# Altium integrated library Texas Instruments Power Management PWM Controller.IntLib: 1227 symbols (part 46 of 49)
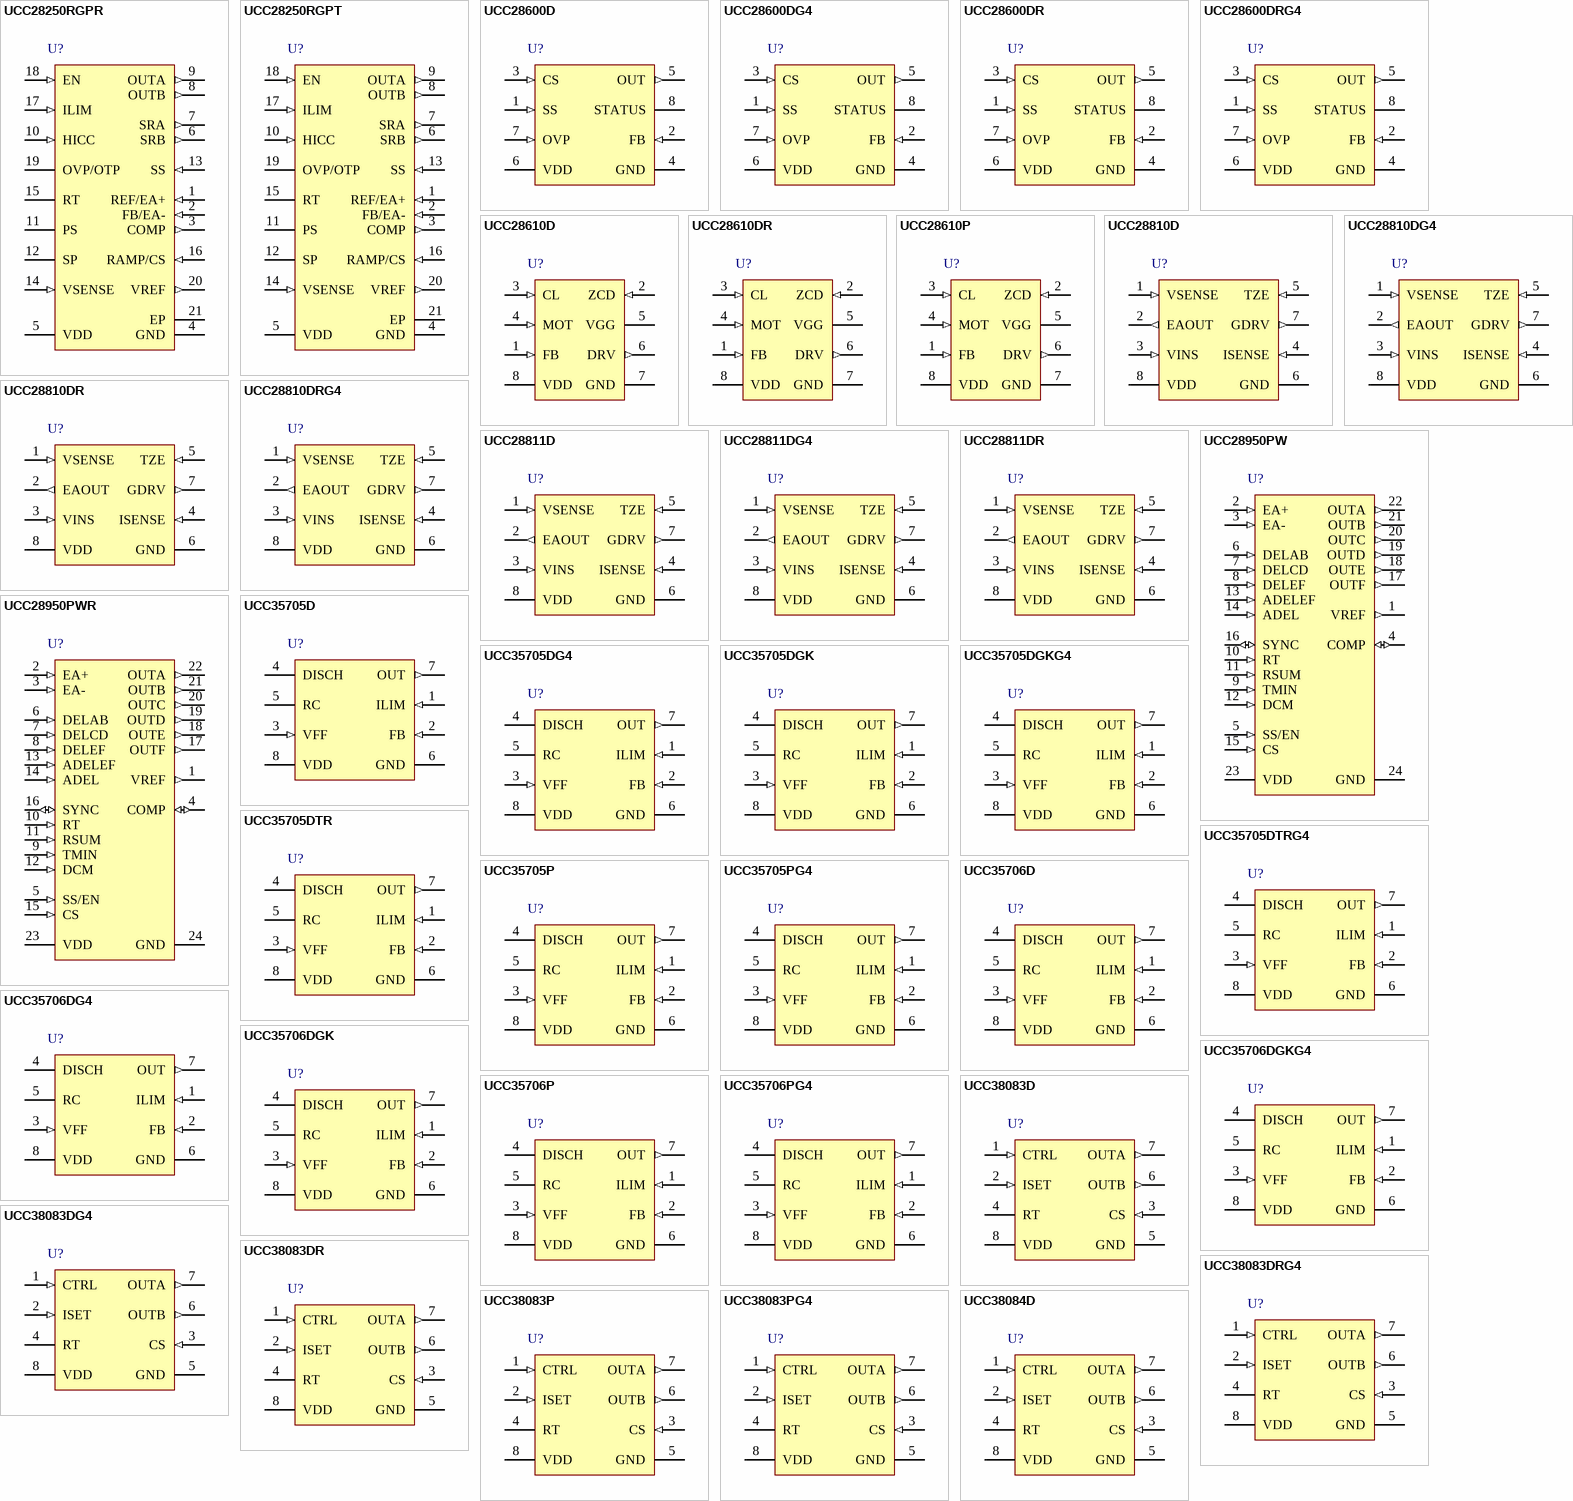
[diagram p88: symbols UCC28250RGPR to UCC38084D]

## UCC28610P
designator U?
Green-Mode Flyback Power Supply Controller with Discontinuous Current Control, -40 to +125 degC, 8-pin PDIP (P), Green (RoHS & no Sb/Br); PartNumber: UCC28610P; Manufacturer: Texas Instruments; Frequency(Max)(kHz): 130; Rating: Catalog; SubFamily: PWM Controller; DatasheetVersion: SLUS888E; PackageVersion: revE, Apr-2010; PackageReference: P8; PackageDescription: 8-Pin Plastic Dual-In-Line Package, Row Spacing 7.62 mm, Pitch 2.54 mm; Supplier 1: Digi-Key; Supplier Part Number 1: 296-25264-5-ND; Supplier 2: Farnell; Supplier Part Number 2: 1778219; Supplier 3: Newark; Supplier Part Number 3: 35R6297; Supplier 4: Mouser; Supplier Part Number 4: 595-UCC28610P; Control Method: Discontinuous Current; Eco-Plan: Green (RoHS & no Sb/Br); Topology: Flyback; UVLO Thresholds On/Off(V): 10.2/8; Mounting Technology: Through Hole; Code_JEDEC: MS-001-BA; ComponentLink1Description: Datasheet; ComponentLink1URL: http://www.ti.com/general/docs/lit/getliterature.tsp?genericPartNumber=UCC28610&fileType=pdf
footprint P8 (DIP, 8-Leads, Row Spacing 7.62mm, Pitch 2.54mm, Body 9.6x6.4mm)
pins: 1 FB (in) "(FeedBack) The FB current, IFB, commands the operating mode of the UCC28610. The FB voltage is always 0.7 V. This pin only detects current.", 2 ZCD (in) "(Zero Current Detection) This pin has two functions: 1. ZCD senses the transformer reset based on a valid zero current detection signal. ZCD 2 I 2. ZCD programs the output Over Voltage Protection (OVP) feature using a (See Datasheet)", 3 CL (in) "(Current Limit) This pin programs the peak primary inductor current that is reached each switching cycle. Program CL 3 I with a resistor between CL and GND.", 4 MOT (in) "(Maximum On Time) This pin has three functions: 1. MOT programs the allowed maximum on-time, tMOT, of the internal driver. 2. MOT programs the converter’s reaction to overload and power input under-voltage conditions with (See Datasheet)", 5 VGG (power) "This pin provides a DC voltage for the gate of the external high voltage MOSFET. This pin must be decoupled with  a 0.1-uF ceramic capacitor placed between VGG and GND, as close to the device as possible. This pin also (See Datasheet)", 6 DRV (out) "(DRiVe) This pin drives the source of an external high voltage power MOSFET. The DRV pin carries the full primary current of the converter. Connect a Schottky diode between DRV and VDD to provide initial bias at start up.", 7 GND (power) "(GrouND) This pin is the current return terminal for both the analog and power signals in the UCC28610. This terminal carries the full primary current of the converter. Separate the return path of the bulk capacitor from the (See Datasheet)", 8 VDD (power) "This is the bias supply pin for the UCC28610. It can be derived from an external source or an auxiliary winding.This pin must be decoupled with a 0.1-uF ceramic capacitor placed between VDD and GND, as close to the device as (See Datasheet)"

## UCC28810D
designator U?
LED Lighting Power Controller, -40 to +105 degC, 8-pin SOIC (D), Green (RoHS & no Sb/Br); PartNumber: UCC28810D; Manufacturer: Texas Instruments; Frequency(Max)(kHz): 200; Rating: Catalog; SubFamily: PWM Controller; DatasheetVersion: SLUS865; PackageVersion: revM, Jun-2011; PackageReference: D8; PackageDescription: 8-Pin Plastic Small Outline Integrated Circuit, 4.9 x 3.9 mm, Pitch 1.27 mm Pitch; Supplier 1: Digi-Key; Supplier Part Number 1: 296-27162-5-ND; Supplier 2: Farnell; Supplier Part Number 2: 1755591; Supplier 3: Newark; Supplier Part Number 3: 34P6595; Supplier 4: Mouser; Supplier Part Number 4: 595-UCC28810D; Eco-Plan: Green (RoHS & no Sb/Br); UVLO Thresholds On/Off(V): 16/10/2012; Mounting Technology: Surface Mount; Code_JEDEC: MS-012AA; ComponentLink1Description: Datasheet; ComponentLink1URL: http://www.ti.com/general/docs/lit/getliterature.tsp?genericPartNumber=UCC28810&fileType=pdf
footprint D8_N (SOIC, 8-Leads, Body 4.9x3.9mm, Pitch 1.27mm, IPC Medium Density)
footprint D8_L (SOIC, 8-Leads, Body 4.9x3.9mm, Pitch 1.27mm, IPC High Density)
footprint D8_M (SOIC, 8-Leads, Body 4.9x3.9mm, Pitch 1.27mm, IPC Low Density)
pins: 1 VSENSE (in) "This pin is the inverting input to the transconductance amplifier, with a nominal value of 2.5 V, and is also the input to the OVP comparator. Pulling this pin below the ENABLE threshold turns off the output switching, (See Datasheet)", 2 EAOUT (out) "Output of the transconductance error amplifier. The output current capability of this pin is 10 µA under normal conditions, but increases to 1 mA when the voltage on VSENSE rises above 2.5 V. The EAOUT voltage is one of the (See Datasheet)", 3 VINS (in) "This pin senses the instantaneous regulator input voltage through an external voltage divider. The VINS voltage acts as one of the inputs to the current reference generator. The recommended operating range is 0 V to 3.8 V at (See Datasheet)", 4 ISENSE (in) "This pin senses the instantaneous switch current in the external switch and uses this signal as the internal ramp for the current sense comparator. A small internal noise filter is provided. If additional filtering is (See Datasheet)", 5 TZE (in) "This pin is the input for the transformer zero energy detect comparator. A bias winding can be used to sense the transformer zero energy. The transition is detected when the inductor current falls to zero and the TZE input (See Datasheet)", 6 GND (power) "The device reference ground. All bypassing elements are connected to the GND pin with the shortest traces possible.", 7 GDRV (out) "The gate drive output driving the flyback, buck, or boost switch. This output is capable of delivering up to 750-mA peak currents during turn-on and turn-off. An external gate drive resistor may be needed to limit the peak (See Datasheet)", 8 VDD (power) "The supply voltage for the device. This pin must be bypassed with a high-frequency capacitor (not less than 0.1 µF) and tied directly to GND with the shortest traces possible. The UCC28810 has a wide UVLO hysteresis, (See Datasheet)"

## UCC28810DG4
designator U?
LED Lighting Power Controller, -40 to +105 degC, 8-pin SOIC (D), Green (RoHS & no Sb/Br); PartNumber: UCC28810DG4; Manufacturer: Texas Instruments; Frequency(Max)(kHz): 200; Rating: Catalog; SubFamily: PWM Controller; DatasheetVersion: SLUS865; PackageVersion: revM, Jun-2011; PackageReference: D8; PackageDescription: 8-Pin Plastic Small Outline Integrated Circuit, 4.9 x 3.9 mm, Pitch 1.27 mm Pitch; Supplier 1: Digi-Key; Supplier Part Number 1: UCC28810DG4-ND; Supplier 2: Newark; Supplier Part Number 2: 34P6596; Supplier 3: Mouser; Supplier Part Number 3: 595-UCC28810DG4; Eco-Plan: Green (RoHS & no Sb/Br); UVLO Thresholds On/Off(V): 16/10/2012; Mounting Technology: Surface Mount; Code_JEDEC: MS-012AA; ComponentLink1Description: Datasheet; ComponentLink1URL: http://www.ti.com/general/docs/lit/getliterature.tsp?genericPartNumber=UCC28810&fileType=pdf
footprint D8_N (SOIC, 8-Leads, Body 4.9x3.9mm, Pitch 1.27mm, IPC Medium Density)
footprint D8_L (SOIC, 8-Leads, Body 4.9x3.9mm, Pitch 1.27mm, IPC High Density)
footprint D8_M (SOIC, 8-Leads, Body 4.9x3.9mm, Pitch 1.27mm, IPC Low Density)
pins: 1 VSENSE (in) "This pin is the inverting input to the transconductance amplifier, with a nominal value of 2.5 V, and is also the input to the OVP comparator. Pulling this pin below the ENABLE threshold turns off the output switching, (See Datasheet)", 2 EAOUT (out) "Output of the transconductance error amplifier. The output current capability of this pin is 10 µA under normal conditions, but increases to 1 mA when the voltage on VSENSE rises above 2.5 V. The EAOUT voltage is one of the (See Datasheet)", 3 VINS (in) "This pin senses the instantaneous regulator input voltage through an external voltage divider. The VINS voltage acts as one of the inputs to the current reference generator. The recommended operating range is 0 V to 3.8 V at (See Datasheet)", 4 ISENSE (in) "This pin senses the instantaneous switch current in the external switch and uses this signal as the internal ramp for the current sense comparator. A small internal noise filter is provided. If additional filtering is (See Datasheet)", 5 TZE (in) "This pin is the input for the transformer zero energy detect comparator. A bias winding can be used to sense the transformer zero energy. The transition is detected when the inductor current falls to zero and the TZE input (See Datasheet)", 6 GND (power) "The device reference ground. All bypassing elements are connected to the GND pin with the shortest traces possible.", 7 GDRV (out) "The gate drive output driving the flyback, buck, or boost switch. This output is capable of delivering up to 750-mA peak currents during turn-on and turn-off. An external gate drive resistor may be needed to limit the peak (See Datasheet)", 8 VDD (power) "The supply voltage for the device. This pin must be bypassed with a high-frequency capacitor (not less than 0.1 µF) and tied directly to GND with the shortest traces possible. The UCC28810 has a wide UVLO hysteresis, (See Datasheet)"

## UCC28810DR
designator U?
LED Lighting Power Controller, -40 to +105 degC, 8-pin SOIC (D), Green (RoHS & no Sb/Br); PartNumber: UCC28810DR; Manufacturer: Texas Instruments; Frequency(Max)(kHz): 200; Rating: Catalog; SubFamily: PWM Controller; DatasheetVersion: SLUS865; PackageVersion: revM, Jun-2011; PackageReference: D8; PackageDescription: 8-Pin Plastic Small Outline Integrated Circuit, 4.9 x 3.9 mm, Pitch 1.27 mm Pitch; Supplier 1: Digi-Key; Supplier Part Number 1: 296-23905-2-ND; Supplier 2: Digi-Key; Supplier Part Number 2: 296-23905-1-ND; Supplier 3: Digi-Key; Supplier Part Number 3: 296-23905-6-ND; Supplier 4: Newark; Supplier Part Number 4: 34P6597; Supplier 5: Mouser; Supplier Part Number 5: 595-UCC28810DR; Eco-Plan: Green (RoHS & no Sb/Br); UVLO Thresholds On/Off(V): 16/10/2012; Mounting Technology: Surface Mount; Code_JEDEC: MS-012AA; ComponentLink1Description: Datasheet; ComponentLink1URL: http://www.ti.com/general/docs/lit/getliterature.tsp?genericPartNumber=UCC28810&fileType=pdf
footprint D8_N (SOIC, 8-Leads, Body 4.9x3.9mm, Pitch 1.27mm, IPC Medium Density)
footprint D8_L (SOIC, 8-Leads, Body 4.9x3.9mm, Pitch 1.27mm, IPC High Density)
footprint D8_M (SOIC, 8-Leads, Body 4.9x3.9mm, Pitch 1.27mm, IPC Low Density)
pins: 1 VSENSE (in) "This pin is the inverting input to the transconductance amplifier, with a nominal value of 2.5 V, and is also the input to the OVP comparator. Pulling this pin below the ENABLE threshold turns off the output switching, (See Datasheet)", 2 EAOUT (out) "Output of the transconductance error amplifier. The output current capability of this pin is 10 µA under normal conditions, but increases to 1 mA when the voltage on VSENSE rises above 2.5 V. The EAOUT voltage is one of the (See Datasheet)", 3 VINS (in) "This pin senses the instantaneous regulator input voltage through an external voltage divider. The VINS voltage acts as one of the inputs to the current reference generator. The recommended operating range is 0 V to 3.8 V at (See Datasheet)", 4 ISENSE (in) "This pin senses the instantaneous switch current in the external switch and uses this signal as the internal ramp for the current sense comparator. A small internal noise filter is provided. If additional filtering is (See Datasheet)", 5 TZE (in) "This pin is the input for the transformer zero energy detect comparator. A bias winding can be used to sense the transformer zero energy. The transition is detected when the inductor current falls to zero and the TZE input (See Datasheet)", 6 GND (power) "The device reference ground. All bypassing elements are connected to the GND pin with the shortest traces possible.", 7 GDRV (out) "The gate drive output driving the flyback, buck, or boost switch. This output is capable of delivering up to 750-mA peak currents during turn-on and turn-off. An external gate drive resistor may be needed to limit the peak (See Datasheet)", 8 VDD (power) "The supply voltage for the device. This pin must be bypassed with a high-frequency capacitor (not less than 0.1 µF) and tied directly to GND with the shortest traces possible. The UCC28810 has a wide UVLO hysteresis, (See Datasheet)"

## UCC28810DRG4
designator U?
LED Lighting Power Controller, -40 to +105 degC, 8-pin SOIC (D), Green (RoHS & no Sb/Br); PartNumber: UCC28810DRG4; Manufacturer: Texas Instruments; Frequency(Max)(kHz): 200; Rating: Catalog; SubFamily: PWM Controller; UVLO Thresholds On/Off(V): 16/10; DatasheetVersion: SLUS865; PackageVersion: revM, Jun-2011; PackageReference: D8; PackageDescription: 8-Pin Plastic Small Outline Integrated Circuit, 4.9 x 3.9 mm, Pitch 1.27 mm Pitch; Supplier 1: Digi-Key; Supplier Part Number 1: UCC28810DRG4-ND; Supplier 2: Newark; Supplier Part Number 2: 34P6598; Supplier 3: Mouser; Supplier Part Number 3: 595-UCC28810DRG4; Eco-Plan: Green (RoHS & no Sb/Br); Mounting Technology: Surface Mount; Code_JEDEC: MS-012AA; ComponentLink1Description: Datasheet; ComponentLink1URL: http://www.ti.com/general/docs/lit/getliterature.tsp?genericPartNumber=UCC28810&fileType=pdf
footprint D8_N (SOIC, 8-Leads, Body 4.9x3.9mm, Pitch 1.27mm, IPC Medium Density)
footprint D8_L (SOIC, 8-Leads, Body 4.9x3.9mm, Pitch 1.27mm, IPC High Density)
footprint D8_M (SOIC, 8-Leads, Body 4.9x3.9mm, Pitch 1.27mm, IPC Low Density)
pins: 1 VSENSE (in) "This pin is the inverting input to the transconductance amplifier, with a nominal value of 2.5 V, and is also the input to the OVP comparator. Pulling this pin below the ENABLE threshold turns off the output switching, (See Datasheet)", 2 EAOUT (out) "Output of the transconductance error amplifier. The output current capability of this pin is 10 µA under normal conditions, but increases to 1 mA when the voltage on VSENSE rises above 2.5 V. The EAOUT voltage is one of the (See Datasheet)", 3 VINS (in) "This pin senses the instantaneous regulator input voltage through an external voltage divider. The VINS voltage acts as one of the inputs to the current reference generator. The recommended operating range is 0 V to 3.8 V at (See Datasheet)", 4 ISENSE (in) "This pin senses the instantaneous switch current in the external switch and uses this signal as the internal ramp for the current sense comparator. A small internal noise filter is provided. If additional filtering is (See Datasheet)", 5 TZE (in) "This pin is the input for the transformer zero energy detect comparator. A bias winding can be used to sense the transformer zero energy. The transition is detected when the inductor current falls to zero and the TZE input (See Datasheet)", 6 GND (power) "The device reference ground. All bypassing elements are connected to the GND pin with the shortest traces possible.", 7 GDRV (out) "The gate drive output driving the flyback, buck, or boost switch. This output is capable of delivering up to 750-mA peak currents during turn-on and turn-off. An external gate drive resistor may be needed to limit the peak (See Datasheet)", 8 VDD (power) "The supply voltage for the device. This pin must be bypassed with a high-frequency capacitor (not less than 0.1 µF) and tied directly to GND with the shortest traces possible. The UCC28810 has a wide UVLO hysteresis, (See Datasheet)"

## UCC28811D
designator U?
LED Lighting Power Controller, -40 to +105 degC, 8-pin SOIC (D), Green (RoHS & no Sb/Br); PartNumber: UCC28811D; Manufacturer: Texas Instruments; Frequency(Max)(kHz): 200; Rating: Catalog; SubFamily: PWM Controller; DatasheetVersion: SLUS865; PackageVersion: revM, Jun-2011; PackageReference: D8; PackageDescription: 8-Pin Plastic Small Outline Integrated Circuit, 4.9 x 3.9 mm, Pitch 1.27 mm Pitch; Supplier 1: Digi-Key; Supplier Part Number 1: 296-34757-5-ND; Supplier 2: Farnell; Supplier Part Number 2: 1689434; Supplier 3: Newark; Supplier Part Number 3: 19P7480; Supplier 4: Mouser; Supplier Part Number 4: 595-UCC28811D; Eco-Plan: Green (RoHS & no Sb/Br); UVLO Thresholds On/Off(V): 12.5/10; Mounting Technology: Surface Mount; Code_JEDEC: MS-012AA; ComponentLink1Description: Datasheet; ComponentLink1URL: http://www.ti.com/general/docs/lit/getliterature.tsp?genericPartNumber=UCC28811&fileType=pdf
footprint D8_N (SOIC, 8-Leads, Body 4.9x3.9mm, Pitch 1.27mm, IPC Medium Density)
footprint D8_L (SOIC, 8-Leads, Body 4.9x3.9mm, Pitch 1.27mm, IPC High Density)
footprint D8_M (SOIC, 8-Leads, Body 4.9x3.9mm, Pitch 1.27mm, IPC Low Density)
pins: 1 VSENSE (in) "This pin is the inverting input to the transconductance amplifier, with a nominal value of 2.5 V, and is also the input to the OVP comparator. Pulling this pin below the ENABLE threshold turns off the output switching, (See Datasheet)", 2 EAOUT (out) "Output of the transconductance error amplifier. The output current capability of this pin is 10 u A under normal conditions, but increases to 1 mA when the voltage on VSENSE rises above 2.5 V. The EAOUT voltage is one of the (See Datasheet)", 3 VINS (in) "This pin senses the instantaneous regulator input voltage through an external voltage divider. The VINS voltage acts as one of the inputs to the current reference generator. The recommended operating range is 0 V to 3.8 V at (See Datasheet)", 4 ISENSE (in) "This pin senses the instantaneous switch current in the external switch and uses this signal as the internal ramp for the current sense comparator. A small internal noise filter is provided. If additional filtering is (See Datasheet)", 5 TZE (in) "This pin is the input for the transformer zero energy detect comparator. A bias winding can be used to sense the transformer zero energy. The transition is detected when the inductor current falls to zero and the TZE input (See Datasheet)", 6 GND (power) "The device reference ground. All bypassing elements are connected to the GND pin with the shortest traces possible.", 7 GDRV (out) "The gate drive output driving the flyback, buck, or boost switch. This output is capable of delivering up to 750-mA peak currents during turn-on and turn-off. An external gate drive resistor may be needed to limit the peak (See Datasheet)", 8 VDD (power) "The supply voltage for the device. This pin must be bypassed with a high-frequency capacitor (not less than 0.1 uF) and tied directly to GND with the shortest traces possible. The UCC28810 has a wide UVLO hysteresis, (See Datasheet)"

## UCC28811DG4
designator U?
LED Lighting Power Controller, -40 to +105 degC, 8-pin SOIC (D), Green (RoHS & no Sb/Br); PartNumber: UCC28811DG4; Manufacturer: Texas Instruments; Frequency(Max)(kHz): 200; Rating: Catalog; SubFamily: PWM Controller; DatasheetVersion: SLUS865; PackageVersion: revM, Jun-2011; PackageReference: D8; PackageDescription: 8-Pin Plastic Small Outline Integrated Circuit, 4.9 x 3.9 mm, Pitch 1.27 mm Pitch; Supplier 1: Digi-Key; Supplier Part Number 1: UCC28811DG4-ND; Supplier 2: Mouser; Supplier Part Number 2: 595-UCC28811DG4; Eco-Plan: Green (RoHS & no Sb/Br); UVLO Thresholds On/Off(V): 12.5/10; Mounting Technology: Surface Mount; Code_JEDEC: MS-012AA; ComponentLink1Description: Datasheet; ComponentLink1URL: http://www.ti.com/general/docs/lit/getliterature.tsp?genericPartNumber=UCC28811&fileType=pdf
footprint D8_N (SOIC, 8-Leads, Body 4.9x3.9mm, Pitch 1.27mm, IPC Medium Density)
footprint D8_L (SOIC, 8-Leads, Body 4.9x3.9mm, Pitch 1.27mm, IPC High Density)
footprint D8_M (SOIC, 8-Leads, Body 4.9x3.9mm, Pitch 1.27mm, IPC Low Density)
pins: 1 VSENSE (in) "This pin is the inverting input to the transconductance amplifier, with a nominal value of 2.5 V, and is also the input to the OVP comparator. Pulling this pin below the ENABLE threshold turns off the output switching, (See Datasheet)", 2 EAOUT (out) "Output of the transconductance error amplifier. The output current capability of this pin is 10 u A under normal conditions, but increases to 1 mA when the voltage on VSENSE rises above 2.5 V. The EAOUT voltage is one of the (See Datasheet)", 3 VINS (in) "This pin senses the instantaneous regulator input voltage through an external voltage divider. The VINS voltage acts as one of the inputs to the current reference generator. The recommended operating range is 0 V to 3.8 V at (See Datasheet)", 4 ISENSE (in) "This pin senses the instantaneous switch current in the external switch and uses this signal as the internal ramp for the current sense comparator. A small internal noise filter is provided. If additional filtering is (See Datasheet)", 5 TZE (in) "This pin is the input for the transformer zero energy detect comparator. A bias winding can be used to sense the transformer zero energy. The transition is detected when the inductor current falls to zero and the TZE input (See Datasheet)", 6 GND (power) "The device reference ground. All bypassing elements are connected to the GND pin with the shortest traces possible.", 7 GDRV (out) "The gate drive output driving the flyback, buck, or boost switch. This output is capable of delivering up to 750-mA peak currents during turn-on and turn-off. An external gate drive resistor may be needed to limit the peak (See Datasheet)", 8 VDD (power) "The supply voltage for the device. This pin must be bypassed with a high-frequency capacitor (not less than 0.1 uF) and tied directly to GND with the shortest traces possible. The UCC28810 has a wide UVLO hysteresis, (See Datasheet)"

## UCC28811DR
designator U?
LED Lighting Power Controller, -40 to +105 degC, 8-pin SOIC (D), Green (RoHS & no Sb/Br); PartNumber: UCC28811DR; Manufacturer: Texas Instruments; Frequency(Max)(kHz): 200; Rating: Catalog; SubFamily: PWM Controller; DatasheetVersion: SLUS865; PackageVersion: revM, Jun-2011; PackageReference: D8; PackageDescription: 8-Pin Plastic Small Outline Integrated Circuit, 4.9 x 3.9 mm, Pitch 1.27 mm Pitch; Supplier 1: Digi-Key; Supplier Part Number 1: 296-23906-2-ND; Supplier 2: Digi-Key; Supplier Part Number 2: 296-23906-1-ND; Supplier 3: Digi-Key; Supplier Part Number 3: 296-23906-6-ND; Supplier 4: Newark; Supplier Part Number 4: 34P6600; Supplier 5: Mouser; Supplier Part Number 5: 595-UCC28811DR; Eco-Plan: Green (RoHS & no Sb/Br); UVLO Thresholds On/Off(V): 12.5/10; Mounting Technology: Surface Mount; Code_JEDEC: MS-012AA; ComponentLink1Description: Datasheet; ComponentLink1URL: http://www.ti.com/general/docs/lit/getliterature.tsp?genericPartNumber=UCC28811&fileType=pdf
footprint D8_N (SOIC, 8-Leads, Body 4.9x3.9mm, Pitch 1.27mm, IPC Medium Density)
footprint D8_L (SOIC, 8-Leads, Body 4.9x3.9mm, Pitch 1.27mm, IPC High Density)
footprint D8_M (SOIC, 8-Leads, Body 4.9x3.9mm, Pitch 1.27mm, IPC Low Density)
pins: 1 VSENSE (in) "This pin is the inverting input to the transconductance amplifier, with a nominal value of 2.5 V, and is also the input to the OVP comparator. Pulling this pin below the ENABLE threshold turns off the output switching, (See Datasheet)", 2 EAOUT (out) "Output of the transconductance error amplifier. The output current capability of this pin is 10 u A under normal conditions, but increases to 1 mA when the voltage on VSENSE rises above 2.5 V. The EAOUT voltage is one of the (See Datasheet)", 3 VINS (in) "This pin senses the instantaneous regulator input voltage through an external voltage divider. The VINS voltage acts as one of the inputs to the current reference generator. The recommended operating range is 0 V to 3.8 V at (See Datasheet)", 4 ISENSE (in) "This pin senses the instantaneous switch current in the external switch and uses this signal as the internal ramp for the current sense comparator. A small internal noise filter is provided. If additional filtering is (See Datasheet)", 5 TZE (in) "This pin is the input for the transformer zero energy detect comparator. A bias winding can be used to sense the transformer zero energy. The transition is detected when the inductor current falls to zero and the TZE input (See Datasheet)", 6 GND (power) "The device reference ground. All bypassing elements are connected to the GND pin with the shortest traces possible.", 7 GDRV (out) "The gate drive output driving the flyback, buck, or boost switch. This output is capable of delivering up to 750-mA peak currents during turn-on and turn-off. An external gate drive resistor may be needed to limit the peak (See Datasheet)", 8 VDD (power) "The supply voltage for the device. This pin must be bypassed with a high-frequency capacitor (not less than 0.1 uF) and tied directly to GND with the shortest traces possible. The UCC28810 has a wide UVLO hysteresis, (See Datasheet)"

## UCC28950PW
designator U?
Green Phase-Shifted Full-Bridge Controller with Synchronous Rectification with Current Control, 97 % Duty Cycle, -40 to +125 degC, 24-pin TSSOP (PW), Green (RoHS & no Sb/Br); PartNumber: UCC28950PW; Manufacturer: Texas Instruments; Duty Cycle(Max)(%): 97; Frequency(Max)(kHz): 1000; Rating: Catalog; Regulated Outputs(#): 1; SubFamily: PWM Controller; UVLO Thresholds On/Off(V): 6.75min/6.15min; DatasheetVersion: SLUSA16B; PackageVersion: revG, Feb-2011; PackageReference: PW24; PackageDescription: 24-Pin Thin Small Outline Package 0.65 mm Pitch; Supplier 1: Digi-Key; Supplier Part Number 1: 296-34760-5-ND; Supplier 2: Farnell; Supplier Part Number 2: 1909483; Supplier 3: Newark; Supplier Part Number 3: 72R6711; Supplier 4: Mouser; Supplier Part Number 4: 595-UCC28950PW; Control Method: Current; Eco-Plan: Green (RoHS & no Sb/Br); Topology: Full-Bridge; Mounting Technology: Surface Mount; Code_JEDEC: MO-153; ComponentLink1Description: Datasheet; ComponentLink1URL: http://www.ti.com/general/docs/lit/getliterature.tsp?genericPartNumber=UCC28950&fileType=pdf
footprint PW24_N (TSOP, 24-Leads, Body 7.8x4.4mm, Pitch 0.65mm, IPC Medium Density)
footprint PW24_L (TSOP, 24-Leads, Body 7.8x4.4mm, Pitch 0.65mm, IPC High Density)
footprint PW24_M (TSOP, 24-Leads, Body 7.8x4.4mm, Pitch 0.65mm, IPC Low Density)
pins: 1 VREF (out) "5-V, +/-1.5%, 20-mA reference voltage output.", 2 EA+ (in) "Error amplifier non-inverting input.", 3 EA- (in) "Error amplifier inverting input.", 4 COMP (io) "Error amplifier output and input to the PWM comparator.", 5 SS/EN (in) "Soft-start programming, device enable and hiccup mode protection circuit.", 6 DELAB (in) "Dead-time delay programming between OUTA and OUTB.", 7 DELCD (in) "Dead-time delay programming between OUTC and OUTD.", 8 DELEF (in) "Delay-time programming between OUTA to OUTF, and OUTB to OUTE.", 9 TMIN (in) "Minimum duty cycle programming in burst mode.", 10 RT (in) "Oscillator frequency set. Master or slave mode setting.", 11 RSUM (in) "Slope compensation programming. Voltage mode or peak current mode setting.", 12 DCM (in) "DCM threshold setting.", 13 ADELEF (in) "Delay-time programming between primary side and secondary side switches, TAFSET and TBESET.", 14 ADEL (in) "Dead-time programming for the primary switches over CS voltage range, TABSET and TCDSET.", 15 CS (in) "Current sense for cycle-by-cycle over-current protection and adaptive delay functions.", 16 SYNC (io) "Synchronization out from Master controller to input of slave controller.", 17 OUTF (out) "0.2-A sink/source synchronous switching output.", 18 OUTE (out) "0.2-A sink/source synchronous switching output.", 19 OUTD (out) "0.2-A sink/source primary switching output.", 20 OUTC (out) "0.2-A sink/source primary switching output.", 21 OUTB (out) "0.2-A sink/source primary switching output.", 22 OUTA (out) "0.2-A sink/source primary switching output.", 23 VDD (power) "Bias supply input.", 24 GND (power) "Ground. All signals are referenced to this node."

## UCC28950PWR
designator U?
Green Phase-Shifted Full-Bridge Controller with Synchronous Rectification with Current Mode Control, 97 % Duty Cycle, -40 to +125 degC, 24-pin TSSOP (PW), Green (RoHS & no Sb/Br); PartNumber: UCC28950PWR; Manufacturer: Texas Instruments; Duty Cycle(Max)(%): 97; Frequency(Max)(kHz): 1000; Rating: Catalog; Regulated Outputs(#): 1; SubFamily: PWM Controller; UVLO Thresholds On/Off(V): 6.75min/6.15min; DatasheetVersion: SLUSA16B; PackageVersion: revG, Feb-2011; PackageReference: PW24; PackageDescription: 24-Pin Thin Small Outline Package 0.65 mm Pitch; Supplier 1: Digi-Key; Supplier Part Number 1: 296-25884-2-ND; Supplier 2: Digi-Key; Supplier Part Number 2: 296-25884-1-ND; Supplier 3: Digi-Key; Supplier Part Number 3: 296-25884-6-ND; Supplier 4: Newark; Supplier Part Number 4: 72R6712; Supplier 5: Mouser; Supplier Part Number 5: 595-UCC28950PWR; Control Method: Current; Eco-Plan: Green (RoHS & no Sb/Br); Topology: Full-Bridge; Mounting Technology: Surface Mount; Code_JEDEC: MO-153; ComponentLink1Description: Datasheet; ComponentLink1URL: http://www.ti.com/general/docs/lit/getliterature.tsp?genericPartNumber=UCC28950&fileType=pdf
footprint PW24_N (TSOP, 24-Leads, Body 7.8x4.4mm, Pitch 0.65mm, IPC Medium Density)
footprint PW24_L (TSOP, 24-Leads, Body 7.8x4.4mm, Pitch 0.65mm, IPC High Density)
footprint PW24_M (TSOP, 24-Leads, Body 7.8x4.4mm, Pitch 0.65mm, IPC Low Density)
pins: 1 VREF (out) "5-V, +/-1.5%, 20-mA reference voltage output.", 2 EA+ (in) "Error amplifier non-inverting input.", 3 EA- (in) "Error amplifier inverting input.", 4 COMP (io) "Error amplifier output and input to the PWM comparator.", 5 SS/EN (in) "Soft-start programming, device enable and hiccup mode protection circuit.", 6 DELAB (in) "Dead-time delay programming between OUTA and OUTB.", 7 DELCD (in) "Dead-time delay programming between OUTC and OUTD.", 8 DELEF (in) "Delay-time programming between OUTA to OUTF, and OUTB to OUTE.", 9 TMIN (in) "Minimum duty cycle programming in burst mode.", 10 RT (in) "Oscillator frequency set. Master or slave mode setting.", 11 RSUM (in) "Slope compensation programming. Voltage mode or peak current mode setting.", 12 DCM (in) "DCM threshold setting.", 13 ADELEF (in) "Delay-time programming between primary side and secondary side switches, TAFSET and TBESET.", 14 ADEL (in) "Dead-time programming for the primary switches over CS voltage range, TABSET and TCDSET.", 15 CS (in) "Current sense for cycle-by-cycle over-current protection and adaptive delay functions.", 16 SYNC (io) "Synchronization out from Master controller to input of slave controller.", 17 OUTF (out) "0.2-A sink/source synchronous switching output.", 18 OUTE (out) "0.2-A sink/source synchronous switching output.", 19 OUTD (out) "0.2-A sink/source primary switching output.", 20 OUTC (out) "0.2-A sink/source primary switching output.", 21 OUTB (out) "0.2-A sink/source primary switching output.", 22 OUTA (out) "0.2-A sink/source primary switching output.", 23 VDD (power) "Bias supply input.", 24 GND (power) "Ground. All signals are referenced to this node."

## UCC35705D
designator U?
High-Speed Pulse Width Modulator with Voltage Control, 93 % Duty Cycle, 0 to +70 degC, 8-pin SOIC (D), Green (RoHS & no Sb/Br); PartNumber: UCC35705D; Manufacturer: Texas Instruments; Duty Cycle(Max)(%): 93; Frequency(Max)(kHz): 4000; Rating: Catalog; Regulated Outputs(#): 1; SubFamily: PWM Controller; Topology: Boost, Buck, Flyback, Forward; UVLO Thresholds On/Off(V): 8.8/8.2; DatasheetVersion: SLUS473B; PackageVersion: revM, Jun-2011; PackageReference: D8; PackageDescription: 8-Pin Plastic Small Outline Integrated Circuit, 4.9 x 3.9 mm, Pitch 1.27 mm Pitch; Supplier 1: Digi-Key; Supplier Part Number 1: 296-11431-5-ND; Supplier 2: Newark; Supplier Part Number 2: 77C2263; Supplier 3: Mouser; Supplier Part Number 3: 595-UCC35705D; Control Method: Voltage; Eco-Plan: Green (RoHS & no Sb/Br); Mounting Technology: Surface Mount; Code_JEDEC: MS-012AA; ComponentLink1Description: Datasheet; ComponentLink1URL: http://www.ti.com/general/docs/lit/getliterature.tsp?genericPartNumber=UCC35705&fileType=pdf
footprint D8_N (SOIC, 8-Leads, Body 4.9x3.9mm, Pitch 1.27mm, IPC Medium Density)
footprint D8_L (SOIC, 8-Leads, Body 4.9x3.9mm, Pitch 1.27mm, IPC High Density)
footprint D8_M (SOIC, 8-Leads, Body 4.9x3.9mm, Pitch 1.27mm, IPC Low Density)
pins: 1 ILIM (in) "Provides a pulse-by-pulse current limit by terminating the PWM pulse when the input is above 200 mV. This provides a high speed (25 ns typical) path to reset the PWM latch, allowing for a pulse-by-pulse current limit.", 2 FB (in) "Input to the PWM comparator. This pin is intended to interface with an optocoupler. Input impedance is 50-k ohm typical.", 3 VFF (in) "The feed-forward pin provides the controller with a voltage proportional to the power supply input voltage. When the oscillator is providing a duty cycle clamp, a current of 2 x IDISCH is sourced from the VFF pin.", 4 DISCH "A resistor to VIN sets the oscillator discharge current programming a maximum duty cycle. When grounded, an internal comparator switches the oscillator to a quick discharge mode. A small 100-pF capacitor between DISCH and (See Datasheet)", 5 RC "The oscillator can be configured to provide a maximum duty cycle clamp. In this mode the on--time is set by RT and CT, while the off-time is set by RDISCH and CT. Since the voltage ramp on CT is proportional to VIN, (See Datasheet)", 6 GND (power) "Ground return pin.", 7 OUT (out) "The output is intended to drive an external FET driver or other high impedance circuits, but is not intended to directly drive a power MOSFET. This improves the controller’s noise immunity. The output resistance of the PWM (See Datasheet)", 8 VDD (power) "Power supply pin. This pin should be bypassed with a 0.1-uF capacitor for proper operation. The undervoltage lockout function of the UCC35705/6 allows for a low current startup mode and ensures that all circuits become (See Datasheet)"

## UCC35705DG4
designator U?
High-Speed Pulse Width Modulator with Voltage Control, 93 % Duty Cycle, 0 to +70 degC, 8-pin SOIC (D), Green (RoHS & no Sb/Br); PartNumber: UCC35705DG4; Manufacturer: Texas Instruments; Duty Cycle(Max)(%): 93; Frequency(Max)(kHz): 4000; Rating: Catalog; Regulated Outputs(#): 1; SubFamily: PWM Controller; Topology: Boost, Buck, Flyback, Forward; UVLO Thresholds On/Off(V): 8.8/8.2; DatasheetVersion: SLUS473B; PackageVersion: revM, Jun-2011; PackageReference: D8; PackageDescription: 8-Pin Plastic Small Outline Integrated Circuit, 4.9 x 3.9 mm, Pitch 1.27 mm Pitch; Supplier 1: Digi-Key; Supplier Part Number 1: UCC35705DG4-ND; Supplier 2: Newark; Supplier Part Number 2: 34M0251; Supplier 3: Mouser; Supplier Part Number 3: 595-UCC35705DG4; Control Method: Voltage; Eco-Plan: Green (RoHS & no Sb/Br); Mounting Technology: Surface Mount; Code_JEDEC: MS-012AA; ComponentLink1Description: Datasheet; ComponentLink1URL: http://www.ti.com/general/docs/lit/getliterature.tsp?genericPartNumber=UCC35705&fileType=pdf
footprint D8_N (SOIC, 8-Leads, Body 4.9x3.9mm, Pitch 1.27mm, IPC Medium Density)
footprint D8_L (SOIC, 8-Leads, Body 4.9x3.9mm, Pitch 1.27mm, IPC High Density)
footprint D8_M (SOIC, 8-Leads, Body 4.9x3.9mm, Pitch 1.27mm, IPC Low Density)
pins: 1 ILIM (in) "Provides a pulse-by-pulse current limit by terminating the PWM pulse when the input is above 200 mV. This provides a high speed (25 ns typical) path to reset the PWM latch, allowing for a pulse-by-pulse current limit.", 2 FB (in) "Input to the PWM comparator. This pin is intended to interface with an optocoupler. Input impedance is 50-k ohm typical.", 3 VFF (in) "The feed-forward pin provides the controller with a voltage proportional to the power supply input voltage. When the oscillator is providing a duty cycle clamp, a current of 2 x IDISCH is sourced from the VFF pin.", 4 DISCH "A resistor to VIN sets the oscillator discharge current programming a maximum duty cycle. When grounded, an internal comparator switches the oscillator to a quick discharge mode. A small 100-pF capacitor between DISCH and (See Datasheet)", 5 RC "The oscillator can be configured to provide a maximum duty cycle clamp. In this mode the on--time is set by RT and CT, while the off-time is set by RDISCH and CT. Since the voltage ramp on CT is proportional to VIN, (See Datasheet)", 6 GND (power) "Ground return pin.", 7 OUT (out) "The output is intended to drive an external FET driver or other high impedance circuits, but is not intended to directly drive a power MOSFET. This improves the controller’s noise immunity. The output resistance of the PWM (See Datasheet)", 8 VDD (power) "Power supply pin. This pin should be bypassed with a 0.1-uF capacitor for proper operation. The undervoltage lockout function of the UCC35705/6 allows for a low current startup mode and ensures that all circuits become (See Datasheet)"

## UCC35705DGK
designator U?
High-Speed Pulse Width Modulator with Voltage Control, 93 % Duty Cycle, 0 to +70 degC, 8-pin MSOP (DGK), Green (RoHS & no Sb/Br); PartNumber: UCC35705DGK; Manufacturer: Texas Instruments; Duty Cycle(Max)(%): 93; Frequency(Max)(kHz): 4000; Rating: Catalog; Regulated Outputs(#): 1; SubFamily: PWM Controller; Topology: Boost, Buck, Flyback, Forward; UVLO Thresholds On/Off(V): 8.8/8.2; DatasheetVersion: SLUS473B; PackageVersion: revE, May-2006; PackageReference: DGK8; PackageDescription: 8-Pin Thin Small Outline Package 3 x 3 mm Body ,0.65 mm Pitch; Supplier 1: Digi-Key; Supplier Part Number 1: 296-11683-5-ND; Supplier 2: Newark; Supplier Part Number 2: 77C2264; Supplier 3: Mouser; Supplier Part Number 3: 595-UCC35705DGK; Control Method: Voltage; Eco-Plan: Green (RoHS & no Sb/Br); Mounting Technology: Surface Mount; Code_JEDEC: MO-187-AA; ComponentLink1Description: Datasheet; ComponentLink1URL: http://www.ti.com/general/docs/lit/getliterature.tsp?genericPartNumber=UCC35705&fileType=pdf
footprint DGK8_N (TSOP, 8-Leads, Body 3x3mm, Pitch 0.65mm, IPC Medium Density)
footprint DGK8_L (TSOP, 8-Leads, Body 3x3mm, Pitch 0.65mm, IPC High Density)
footprint DGK8_M (TSOP, 8-Leads, Body 3x3mm, Pitch 0.65mm, IPC Low Density)
pins: 1 ILIM (in) "Provides a pulse-by-pulse current limit by terminating the PWM pulse when the input is above 200 mV. This provides a high speed (25 ns typical) path to reset the PWM latch, allowing for a pulse-by-pulse current limit.", 2 FB (in) "Input to the PWM comparator. This pin is intended to interface with an optocoupler. Input impedance is 50-kohm typical.", 3 VFF (in) "The feed-forward pin provides the controller with a voltage proportional to the power supply input voltage.When the oscillator is providing a duty cycle clamp, a current of 2 x IDISCH is sourced from the VFF pin.When the (See Datasheet)", 4 DISCH "A resistor to VIN sets the oscillator discharge current programming amaximum duty cycle. When grounded, an internal comparator switches the oscillator to a quick discharge mode. A small 100-pF capacitor between DISCH and GND (See Datasheet)", 5 RC "The oscillator can be configured to provide a maximum duty cycle clamp. In this mode the on--time is set by RT and CT,while the off-time is set by RDISCH and CT.Since the voltage ramp on CTis proportional to VIN, (See Datasheet)", 6 GND (power) "Ground return pin.", 7 OUT (out) "The output is intended to drive an external FET driver or other high impedance circuits, but is not intended to directly drive a power MOSFET. This improves the controller’s noise immunity. The output resistance of the PWM (See Datasheet)", 8 VDD (power) "Power supply pin. This pin should be bypassed with a 0.1-uF capacitor for proper operation. The undervoltage lockout function of the UCC35705/6 allows for a low current startupmode and ensures that all circuits become active (See Datasheet)"

## UCC35705DGKG4
designator U?
High-Speed Pulse Width Modulator with Voltage Control, 93 % Duty Cycle, 0 to +70 degC, 8-pin MSOP (DGK), Green (RoHS & no Sb/Br); PartNumber: UCC35705DGKG4; Manufacturer: Texas Instruments; Duty Cycle(Max)(%): 93; Frequency(Max)(kHz): 4000; Rating: Catalog; Regulated Outputs(#): 1; SubFamily: PWM Controller; Topology: Boost, Buck, Flyback, Forward; UVLO Thresholds On/Off(V): 8.8/8.2; DatasheetVersion: SLUS473B; PackageVersion: revE, May-2006; PackageReference: DGK8; PackageDescription: 8-Pin Thin Small Outline Package 3 x 3 mm Body ,0.65 mm Pitch; Supplier 1: Digi-Key; Supplier Part Number 1: UCC35705DGKG4-ND; Supplier 2: Newark; Supplier Part Number 2: 52M6452; Supplier 3: Mouser; Supplier Part Number 3: 595-UCC35705DGKG4; Control Method: Voltage; Eco-Plan: Green (RoHS & no Sb/Br); Mounting Technology: Surface Mount; Code_JEDEC: MO-187-AA; ComponentLink1Description: Datasheet; ComponentLink1URL: http://www.ti.com/general/docs/lit/getliterature.tsp?genericPartNumber=UCC35705&fileType=pdf
footprint DGK8_N (TSOP, 8-Leads, Body 3x3mm, Pitch 0.65mm, IPC Medium Density)
footprint DGK8_L (TSOP, 8-Leads, Body 3x3mm, Pitch 0.65mm, IPC High Density)
footprint DGK8_M (TSOP, 8-Leads, Body 3x3mm, Pitch 0.65mm, IPC Low Density)
pins: 1 ILIM (in) "Provides a pulse-by-pulse current limit by terminating the PWM pulse when the input is above 200 mV. This provides a high speed (25 ns typical) path to reset the PWM latch, allowing for a pulse-by-pulse current limit.", 2 FB (in) "Input to the PWM comparator. This pin is intended to interface with an optocoupler. Input impedance is 50-kohm typical.", 3 VFF (in) "The feed-forward pin provides the controller with a voltage proportional to the power supply input voltage.When the oscillator is providing a duty cycle clamp, a current of 2 x IDISCH is sourced from the VFF pin.When the (See Datasheet)", 4 DISCH "A resistor to VIN sets the oscillator discharge current programming amaximum duty cycle. When grounded, an internal comparator switches the oscillator to a quick discharge mode. A small 100-pF capacitor between DISCH and GND (See Datasheet)", 5 RC "The oscillator can be configured to provide a maximum duty cycle clamp. In this mode the on--time is set by RT and CT,while the off-time is set by RDISCH and CT.Since the voltage ramp on CTis proportional to VIN, (See Datasheet)", 6 GND (power) "Ground return pin.", 7 OUT (out) "The output is intended to drive an external FET driver or other high impedance circuits, but is not intended to directly drive a power MOSFET. This improves the controller’s noise immunity. The output resistance of the PWM (See Datasheet)", 8 VDD (power) "Power supply pin. This pin should be bypassed with a 0.1-uF capacitor for proper operation. The undervoltage lockout function of the UCC35705/6 allows for a low current startupmode and ensures that all circuits become active (See Datasheet)"

## UCC35705DTR
designator U?
High-Speed Pulse Width Modulator with Voltage Control, 93 % Duty Cycle, 0 to +70 degC, 8-pin SOIC (D), Green (RoHS & no Sb/Br); PartNumber: UCC35705DTR; Manufacturer: Texas Instruments; Duty Cycle(Max)(%): 93; Frequency(Max)(kHz): 4000; Rating: Catalog; Regulated Outputs(#): 1; SubFamily: PWM Controller; Topology: Boost, Buck, Flyback, Forward; UVLO Thresholds On/Off(V): 8.8/8.2; DatasheetVersion: SLUS473B; PackageVersion: revM, Jun-2011; PackageReference: D8; PackageDescription: 8-Pin Plastic Small Outline Integrated Circuit, 4.9 x 3.9 mm, Pitch 1.27 mm Pitch; Supplier 1: Digi-Key; Supplier Part Number 1: UCC35705DTR-ND; Supplier 2: Newark; Supplier Part Number 2: 77C2266; Supplier 3: Mouser; Supplier Part Number 3: 595-UCC35705DTR; Control Method: Voltage; Eco-Plan: Green (RoHS & no Sb/Br); Mounting Technology: Surface Mount; Code_JEDEC: MS-012AA; ComponentLink1Description: Datasheet; ComponentLink1URL: http://www.ti.com/general/docs/lit/getliterature.tsp?genericPartNumber=UCC35705&fileType=pdf
footprint D8_N (SOIC, 8-Leads, Body 4.9x3.9mm, Pitch 1.27mm, IPC Medium Density)
footprint D8_L (SOIC, 8-Leads, Body 4.9x3.9mm, Pitch 1.27mm, IPC High Density)
footprint D8_M (SOIC, 8-Leads, Body 4.9x3.9mm, Pitch 1.27mm, IPC Low Density)
pins: 1 ILIM (in) "Provides a pulse-by-pulse current limit by terminating the PWM pulse when the input is above 200 mV. This provides a high speed (25 ns typical) path to reset the PWM latch, allowing for a pulse-by-pulse current limit.", 2 FB (in) "Input to the PWM comparator. This pin is intended to interface with an optocoupler. Input impedance is 50-k ohm typical.", 3 VFF (in) "The feed-forward pin provides the controller with a voltage proportional to the power supply input voltage. When the oscillator is providing a duty cycle clamp, a current of 2 x IDISCH is sourced from the VFF pin.", 4 DISCH "A resistor to VIN sets the oscillator discharge current programming a maximum duty cycle. When grounded, an internal comparator switches the oscillator to a quick discharge mode. A small 100-pF capacitor between DISCH and (See Datasheet)", 5 RC "The oscillator can be configured to provide a maximum duty cycle clamp. In this mode the on--time is set by RT and CT, while the off-time is set by RDISCH and CT. Since the voltage ramp on CT is proportional to VIN, (See Datasheet)", 6 GND (power) "Ground return pin.", 7 OUT (out) "The output is intended to drive an external FET driver or other high impedance circuits, but is not intended to directly drive a power MOSFET. This improves the controller’s noise immunity. The output resistance of the PWM (See Datasheet)", 8 VDD (power) "Power supply pin. This pin should be bypassed with a 0.1-uF capacitor for proper operation. The undervoltage lockout function of the UCC35705/6 allows for a low current startup mode and ensures that all circuits become (See Datasheet)"

## UCC35705DTRG4
designator U?
High-Speed Pulse Width Modulator with Voltage control, 93 % Duty Cycle, 0 to +70 degC, 8-pin SOIC (D), Green (RoHS & no Sb/Br); PartNumber: UCC35705DTRG4; Manufacturer: Texas Instruments; Duty Cycle(Max)(%): 93; Frequency(Max)(kHz): 4000; Rating: Catalog; Regulated Outputs(#): 1; SubFamily: PWM Controller; Topology: Boost, Buck, Flyback, Forward; UVLO Thresholds On/Off(V): 8.8/8.2; DatasheetVersion: SLUS473B; PackageVersion: revM, Jun-2011; PackageReference: D8; PackageDescription: 8-Pin Plastic Small Outline Integrated Circuit, 4.9 x 3.9 mm, Pitch 1.27 mm Pitch; Supplier 1: Digi-Key; Supplier Part Number 1: UCC35705DTRG4-ND; Supplier 2: Newark; Supplier Part Number 2: 70K5909; Supplier 3: Mouser; Supplier Part Number 3: 595-UCC35705DTRG4; Control Method: Voltage; Eco-Plan: Green (RoHS & no Sb/Br); Mounting Technology: Surface Mount; Code_JEDEC: MS-012AA; ComponentLink1Description: Datasheet; ComponentLink1URL: http://www.ti.com/general/docs/lit/getliterature.tsp?genericPartNumber=UCC35705&fileType=pdf
footprint D8_N (SOIC, 8-Leads, Body 4.9x3.9mm, Pitch 1.27mm, IPC Medium Density)
footprint D8_L (SOIC, 8-Leads, Body 4.9x3.9mm, Pitch 1.27mm, IPC High Density)
footprint D8_M (SOIC, 8-Leads, Body 4.9x3.9mm, Pitch 1.27mm, IPC Low Density)
pins: 1 ILIM (in) "Provides a pulse-by-pulse current limit by terminating the PWM pulse when the input is above 200 mV. This provides a high speed (25 ns typical) path to reset the PWM latch, allowing for a pulse-by-pulse current limit.", 2 FB (in) "Input to the PWM comparator. This pin is intended to interface with an optocoupler. Input impedance is 50-k ohm typical.", 3 VFF (in) "The feed-forward pin provides the controller with a voltage proportional to the power supply input voltage. When the oscillator is providing a duty cycle clamp, a current of 2 x IDISCH is sourced from the VFF pin.", 4 DISCH "A resistor to VIN sets the oscillator discharge current programming a maximum duty cycle. When grounded, an internal comparator switches the oscillator to a quick discharge mode. A small 100-pF capacitor between DISCH and (See Datasheet)", 5 RC "The oscillator can be configured to provide a maximum duty cycle clamp. In this mode the on--time is set by RT and CT, while the off-time is set by RDISCH and CT. Since the voltage ramp on CT is proportional to VIN, (See Datasheet)", 6 GND (power) "Ground return pin.", 7 OUT (out) "The output is intended to drive an external FET driver or other high impedance circuits, but is not intended to directly drive a power MOSFET. This improves the controller’s noise immunity. The output resistance of the PWM (See Datasheet)", 8 VDD (power) "Power supply pin. This pin should be bypassed with a 0.1-uF capacitor for proper operation. The undervoltage lockout function of the UCC35705/6 allows for a low current startup mode and ensures that all circuits become (See Datasheet)"